# Altium schematic symbol library ld_pulser.SCHLIB: 75 symbols (part 1 of 2)
Pins are listed as number, name and electrical type; pins without a type are passive.

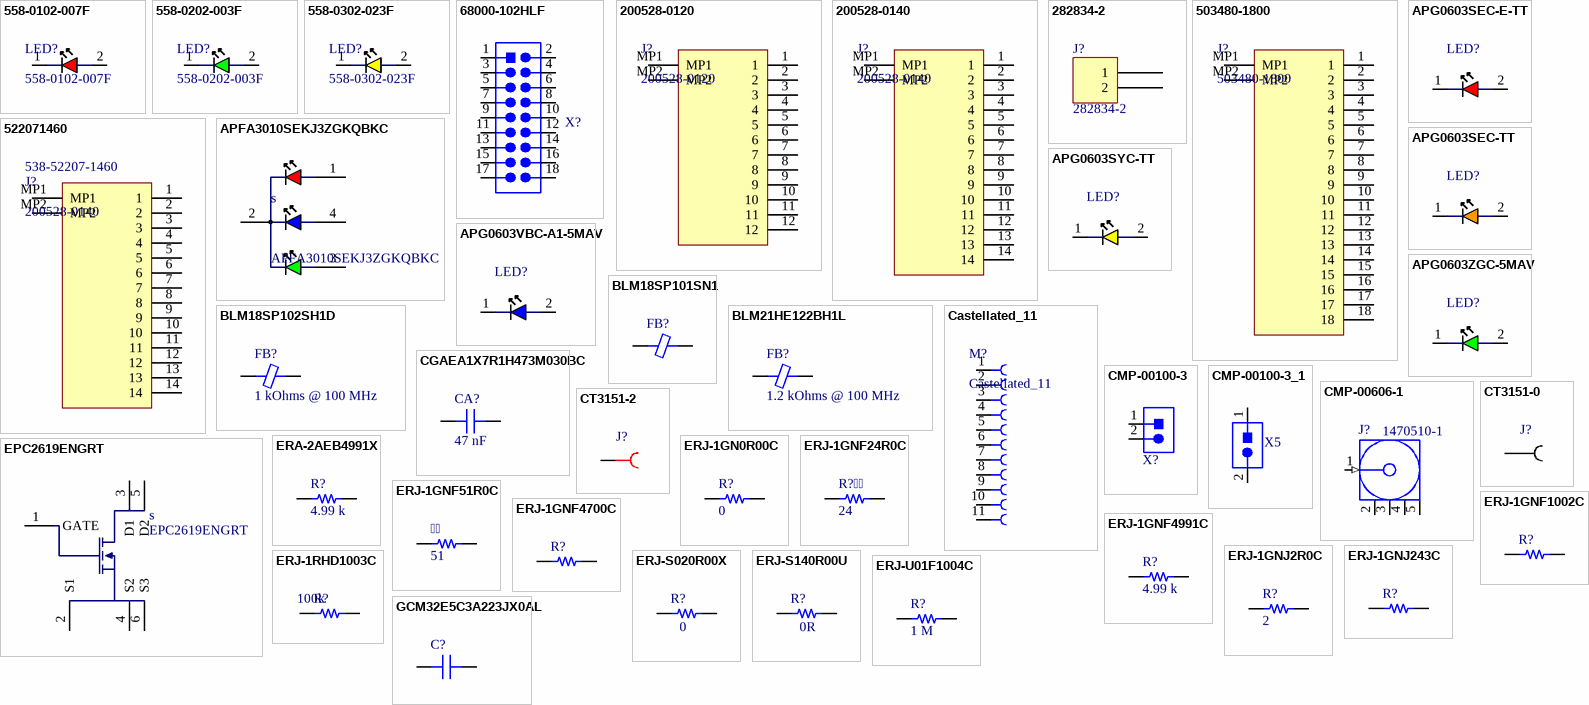
[diagram p0: symbols 558-0102-007F to GCM32E5C3A223JX0AL]

## 558-0102-007F
designator LED?
LED, Red, 5V, SNAPIN Diffused, T-1, 3mm, leaded; Manufacturer: Dialight; Shape: Round; Forward Current: 15mA; Luminous Intensity-Nom: 29mcd; Channels: 1; Optoelectronic Device Type: SINGLE COLOR LED; Viewing Angle: 60°; Overall Height: 3.5306mm; Supplier 1: Farnell; Manufacturer Part Number: 558-0102-007F; RoHS: Yes; Category: LEDs; Stock 1: 267; Pricing 1: 1=2.01, 10=1.74, 25=1.62, 50=1.52, 100=1.4, 250=1.39 (CHF); Mounting Technology: Radial; Pins: 2; Color: Red; Color@wavelength: Red; Terminal Finish: Copper; Min Operating Temperature: -40°C; Max Operating Temperature: 85°C; JESD-609 Code: e4; Lens Style: Diffused; Forward Voltage: 5V; Packaging: Bulk; T-code: T-1; Size: 3mm; Terminal Pitch: 2.54mm; Reach SVHC Compliant: Yes; RoHS Compliant: Yes; ComponentLink1URL: https://datasheet.ciiva.com:443/pdfs/VipMasterIC/IC/DIAC/DIAC-S-A0005429967/DIAC-S-A0005429967-1.pdf?src-supplier=IHS+Markit; ComponentLink1Description: https://datasheet.ciiva.com:443/pdfs/VipMasterIC/IC/DIAC/DIAC-S-A0005429967/DIAC-S-A0005429967-1.pdf?src-supplier=IHS+Markit; ComponentLink2URL: https://datasheet.ciiva.com/8063/558-xx02-00x-8063590.pdf?src-supplier=Element14; ComponentLink2Description: https://datasheet.ciiva.com/8063/558-xx02-00x-8063590.pdf?src-supplier=Element14; ComponentLink3URL: https://datasheet.ciiva.com/7658/1760385-7658427.pdf?src-supplier=Element14; ComponentLink3Description: https://datasheet.ciiva.com/7658/1760385-7658427.pdf?src-supplier=Element14; ComponentLink4URL: https://datasheet.ciiva.com/2147/mdel558cx001-2147129.pdf?src-supplier=Digikey; ComponentLink4Description: https://datasheet.ciiva.com/2147/mdel558cx001-2147129.pdf?src-supplier=Digikey; ComponentLink5URL: https://datasheet.ciiva.com/14601/70081795-14601719.pdf?src-supplier=Allied+Electronics; ComponentLink5Description: https://datasheet.ciiva.com/14601/70081795-14601719.pdf?src-supplier=Allied+Electronics; ComponentLink6URL: https://datasheet.ciiva.com/30154/mdel558cx001-30154365.pdf?src-supplier=Onlinecomponents.com; ComponentLink6Description: https://datasheet.ciiva.com/30154/mdel558cx001-30154365.pdf?src-supplier=Onlinecomponents.com; Supplier Part Number 1: 1126103
footprint 68000-102HLF
pins: 1 K, 2 A

## 558-0202-003F
designator LED?
LED, Green, 5V, SNAPIN Diffused, T-1, 3mm, leaded; Manufacturer: Dialight; Shape: Round; Forward Current: 15mA; Forward Voltage: 7.5V; Luminous Intensity-Nom: 19mcd; Channels: 1; Optoelectronic Device Type: SINGLE COLOR LED; Viewing Angle: 60°; Overall Height: 15mm; Supplier 1: Mouser; Manufacturer Part Number: 558-0202-003F; RoHS: Yes; Category: LEDs; Stock 1: 875; Pricing 1: 1=2.92, 10=2.05, 50=2.05, 100=1.56, 1000=1.15, 10000=1.12 (USD); Mounting Technology: Radial; Pins: 2; Color: Green; Color@wavelength: Green; Terminal Finish: Copper; Min Operating Temperature: -40°C; Max Operating Temperature: 85°C; JESD-609 Code: e4; Lens Style: Diffused; Packaging: Bulk; T-code: T-1; Size: 3mm; Terminal Pitch: 2.54mm; Reach SVHC Compliant: Yes; RoHS Compliant: Yes; ComponentLink1URL: https://datasheet.ciiva.com:443/pdfs/VipMasterIC/IC/DIAC/DIAC-S-A0005429967/DIAC-S-A0005429967-1.pdf?src-supplier=IHS+Markit; ComponentLink1Description: https://datasheet.ciiva.com:443/pdfs/VipMasterIC/IC/DIAC/DIAC-S-A0005429967/DIAC-S-A0005429967-1.pdf?src-supplier=IHS+Markit; ComponentLink2URL: https://datasheet.ciiva.com/12405/mdel558cx001-208698-12405923.pdf?src-supplier=Mouser; ComponentLink2Description: https://datasheet.ciiva.com/12405/mdel558cx001-208698-12405923.pdf?src-supplier=Mouser; ComponentLink3URL: https://datasheet.ciiva.com/30247/mdel558cx001-30247286.pdf?src-supplier=Onlinecomponents.com; ComponentLink3Description: https://datasheet.ciiva.com/30247/mdel558cx001-30247286.pdf?src-supplier=Onlinecomponents.com; ComponentLink4URL: https://datasheet.ciiva.com/6336/mdel558cx001-6336639.pdf?src-supplier=Digikey; ComponentLink4Description: https://datasheet.ciiva.com/6336/mdel558cx001-6336639.pdf?src-supplier=Digikey; Supplier Part Number 1: 645-558-0202-003F
footprint 68000-102HLF
pins: 1 K, 2 A

## 558-0302-023F
designator LED?
LED,  Yellow, 5V, SNAPIN Diffused, T-1, 3mm, leaded; Manufacturer: Dialight; Optoelectronic Device Type: SINGLE COLOR LED; Supplier 1: Mouser; Manufacturer Part Number: 558-0302-023F; RoHS: Yes; Category: Optoelectronics; Stock 1: 781; Pricing 1: 1=2.46, 10=1.64, 50=1.49, 100=1.26, 1000=0.982, 10000=0.907 (USD); Reach SVHC Compliant: Yes; RoHS Compliant: Yes; ComponentLink1URL: https://datasheet.ciiva.com:443/pdfs/VipMasterIC/IC/DIAC/DIAC-S-A0005429967/DIAC-S-A0005429967-1.pdf?src-supplier=IHS+Markit; ComponentLink1Description: https://datasheet.ciiva.com:443/pdfs/VipMasterIC/IC/DIAC/DIAC-S-A0005429967/DIAC-S-A0005429967-1.pdf?src-supplier=IHS+Markit; ComponentLink2URL: http://www.mouser.com/ds/2/109/MDEL558CX001-221124.pdf?src-supplier=Mouser; ComponentLink2Description: http://www.mouser.com/ds/2/109/MDEL558CX001-221124.pdf?src-supplier=Mouser; ComponentLink3URL: https://media.digikey.com/pdf/Data%20Sheets/Dialight%20PDFs/558_SnapInLED_DS.pdf?src-supplier=Digikey; ComponentLink3Description: https://media.digikey.com/pdf/Data%20Sheets/Dialight%20PDFs/558_SnapInLED_DS.pdf?src-supplier=Digikey; ComponentLink4URL: http://uk.rs-online.com/webdocs/1453/0900766b81453b5d.pdf?src-supplier=Rs; ComponentLink4Description: http://uk.rs-online.com/webdocs/1453/0900766b81453b5d.pdf?src-supplier=Rs; ComponentLink5URL: https://www.alliedelec.com/m/d/b7a36c8e4f1c794c265826292e38dc6b.pdf?src-supplier=Allied+Electronics; ComponentLink5Description: https://www.alliedelec.com/m/d/b7a36c8e4f1c794c265826292e38dc6b.pdf?src-supplier=Allied+Electronics; Supplier Part Number 1: 645-558-0302-023F
footprint 68000-102HLF
pins: 1 K, 2 A

## 68000-102HLF
designator X?  (value not drawn)
Header 9*2 Positions, Unshrouded Connector 0.100" (2.54mm) Through Hole Gold or Gold, GXT™; Manufacturer: Amphenol FCI; Number of Positions: 2; Connector Type: Male Pin; Current Rating: 3A; Gender: Male; Insulation Resistance: 5GR; Mating Post Length: 5.84mm; Max Voltage Rating (AC): 1.5kV; Packaging: Bulk; Supplier: Digikey; Supplier Part Number: 609-3500-ND; ComponentLink1Description: 68000-274228-5149165.pdf; ComponentLink1URL: https://datasheet.ciiva.com/5149/68000-274228-5149165.pdf; Pitch: 2.54mm; Manufacturer Part Number: 68000-102HLF; Number of Rows: 1; Termination: Solder; Contact Mating Length: 0.23inch; Case/Package: 100; Colour: Black; ComponentLink2Description: 68000-722084.pdf; ComponentLink2URL: https://datasheet.ciiva.com/722/68000-722084.pdf; ComponentLink3Description: 68000-10149324.pdf; ComponentLink3URL: https://datasheet.ciiva.com/10149/68000-10149324.pdf; ComponentLink4Description: 68000-16726309.pdf; ComponentLink4URL: https://datasheet.ciiva.com/16726/68000-16726309.pdf; Contact Gender: Male; Contact Material: Bronze; Contact Plating: Nickel,Gold,GXT; Depth: 2.41mm; Flammability Rating: UL94 V-0; Housing Colour: Black; Housing Material: Thermoplastic; Lead Free: Lead Free; Length: 5.08mm; Max Operating Temperature: 125°C; Min Operating Temperature: -65°C; Number of Contacts: 2; Orientation: Straight; Package Quantity: 100; Radiation Hardening: No; Termination Post Length: 2.41mm; Voltage Rating: 1.5kV; Voltage Rating (DC): 1.5kV
footprint TSW-109-07-G-D (Conn FPC 14 POS 1 mm)
pins: 1, 2, 3 2, 4 3, 5 3, 6 4, 7 4, 8 5, 9 5, 10 6, 11 6, 12 7, 13 7, 14 8, 15 8, 16 9, 17 9, 18 10

## 200528-0120
designator J?
Connector; Manufacturer_Name: Molex; Height: 2.1mm; Manufacturer_Part_Number: 200528-0120; Mouser Part Number: 538-200528-0120; Mouser Price/Stock: https://www.mouser.co.uk/ProductDetail/Molex/200528-0120?qs=0lSvoLzn4L9%252BN7FTz%2FgRpQ%3D%3D
footprint 2005280120
pins: 1, 2, 3, 4, 5, 6, 7, 8, 9, 10, 11, 12, MP1, MP2

## 200528-0140
designator J?
Conn FPC 14 POS 1 mm; Manufacturer: Molex; Supplier 1: Mouser; Manufacturer Part Number: 200528-0140; RoHS: No; Category: FFC / FPC; Stock 1: 12005; Pricing 1: 1=2.14, 10=1.82, 50=1.82, 100=1.5, 1000=1.2, 10000=1.02 (USD); Supplier Part Number 1: 538-200528-0140
footprint 200528-0140 (Conn FPC 14 POS 1 mm)
pins: 1, 2, 3, 4, 5, 6, 7, 8, 9, 10, 11, 12, 13, 14, MP1, MP2

## 282834-2
designator J?
TERM BLK 2P SIDE ENT 2.54MM PCB; Manufacturer: TE Connectivity AMP Connectors; Current: 10A; Mating Orientation: Horizontal with Board; Number of Levels: 1; Pitch: 0.100" (2.54mm); Positions Per Level: 2; Voltage: 150V; Wire Gauge: 16-30 AWG; Wire Termination: Screw - Rising Cage Clamp; Part Number: 282834-2; Color: Green; ComponentLink1Description: Datasheet; ComponentLink1URL: https://www.te.com/commerce/DocumentDelivery/DDEController?Action=srchrtrv&DocNm=282834&DocType=Customer+Drawing&DocLang=English; ComponentLink2Description: DigiKey Link; ComponentLink2URL: http://digikey.com/product-detail/en/te-connectivity-amp-connectors/282834-2/A98333-ND/1150135; LastUpdated: 15/01/2020 04:15:38; Lifecycle Status: Active; Minimum Order: 1; Mounting Type: Through Hole; Packaging: Bulk; Part Status: Active; Price: 0.88; Series: Buchanan; Supplier 1: DigiKey; Supplier Part Number 1: A98333-ND
footprint TE 282834-2
pins: 1, 2

## 503480-1800
designator J?
Conn FPC  18 POS 0.5mm; Manufacturer: Molex; Manufacturer Part Number: 5034801800; Supplier 1: Mouser; RoHS: Yes; Category: FFC / FPC; Stock 1: 17529; Pricing 1: 1=1.48, 10=1.23, 50=1.23, 100=1.06, 1000=0.885, 10000=0.766 (USD); ComponentLink1URL: https://datasheet.ciiva.com/671/5034800400-sd-671136.pdf?src-supplier=Digi-Key; ComponentLink1Description: https://datasheet.ciiva.com/671/5034800400-sd-671136.pdf?src-supplier=Digi-Key; ComponentLink2URL: https://datasheet.ciiva.com/10366/5034801800-ffc-fpc-connectors-10366583.pdf?src-supplier=Avnet; ComponentLink2Description: https://datasheet.ciiva.com/10366/5034801800-ffc-fpc-connectors-10366583.pdf?src-supplier=Avnet; ComponentLink3URL: https://datasheet.ciiva.com/5137/5034801800-ffc-fpc-connectors-179548-5137672.pdf?src-supplier=Mouser; ComponentLink3Description: https://datasheet.ciiva.com/5137/5034801800-ffc-fpc-connectors-179548-5137672.pdf?src-supplier=Mouser; Supplier Part Number 1: 538-503480-1800
footprint 5034801800
pins: 1, 2, 3, 4, 5, 6, 7, 8, 9, 10, 11, 12, 13, 14, 15, 16, 17, 18, MP1, MP2

## 522071460
designator J?, comment 200528-0140  Supplier Part Number 1: 538-52207-1460
FFC / FPC Board Connector, 1 mm, 14 Contacts, Receptacle, Easy-On 52207 Series, Surface Mount; Manufacturer: Molex; Manufacturer Part Number: 52207-1460; Manufacturer Lifecycle Status: ACTIVE; Contact Resistance: 20mΩ; Current Rating: 1A; Dielectric Material: Polyamide; Insulation Resistance: 100MΩ; Number of Circuits: 14; Pitch: 1mm; Plating: Tin; Plating Thickness: 101.6nm; Stackable: No; Voltage Rating: 125V; Supplier 1: Mouser; RoHS: Compliant; Category: FFC / FPC; Stock 1: 4427; Pricing 1: 1=1.59, 10=1.36, 50=1.21, 100=1.16, 1000=0.977, 10000=0.931 (USD); China RoHS: Compliant; Contact Gender: Female; Contact Material: Bronze; Contact Plating: Gold; Country of Origin: MY; Depth: 7.5mm; ELV: Compliant; Flammability Rating: UL94 V-0; Gender: Receptacle; Length: 21.5mm; Lifecycle Status: Production; Max Operating Temperature: 85°C; Min Operating Temperature: -30°C; Mounting Technology: Surface Mount; Number of Contacts: 14; Pins: 14; Number of Positions: 14; Number of Rows: 1; Orientation: Right Angle; Packaging: Tape and Reel; REACH SVHC: Yes; Schedule B: 8536694040, 8536694040|8536694040|8536694040|8536694040|8536694040; Terminal Pitch: 1mm; Termination: SMD/SMT; ComponentLink1URL: https://datasheet.octopart.com:443/52207-1460-Molex-datasheet-142104640.pdf?src-supplier=IHS; ComponentLink1Description: https://datasheet.octopart.com:443/52207-1460-Molex-datasheet-142104640.pdf?src-supplier=IHS; ComponentLink2URL: https://datasheet.octopart.com:443/52207-1460-Molex-datasheet-13776660.pdf?src-supplier=Sager+Electronics; ComponentLink2Description: https://datasheet.octopart.com:443/52207-1460-Molex-datasheet-13776660.pdf?src-supplier=Sager+Electronics; ComponentLink3URL: https://sigma.octopart.com:443/15648958/technical_drawing/Molex-52207-1460.pdf?src-supplier=Molex; ComponentLink3Description: https://sigma.octopart.com:443/15648958/technical_drawing/Molex-52207-1460.pdf?src-supplier=Molex; ComponentLink4URL: https://datasheet.octopart.com:443/522071460-Molex-datasheet-8339709.pdf?src-supplier=Farnell; ComponentLink4Description: https://datasheet.octopart.com:443/522071460-Molex-datasheet-8339709.pdf?src-supplier=Farnell; ComponentLink5URL: https://datasheet.octopart.com:443/52207-1460-Molex-datasheet-101583306.pdf?src-supplier=Farnell; ComponentLink5Description: https://datasheet.octopart.com:443/52207-1460-Molex-datasheet-101583306.pdf?src-supplier=Farnell; ComponentLink6URL: https://datasheet.octopart.com:443/52207-1460-Molex-datasheet-11535635.pdf?src-supplier=element14+APAC; ComponentLink6Description: https://datasheet.octopart.com:443/52207-1460-Molex-datasheet-11535635.pdf?src-supplier=element14+APAC; ComponentLink7URL: https://datasheet.octopart.com:443/52207-1460-Molex-datasheet-168216957.pdf?src-supplier=TME; ComponentLink7Description: https://datasheet.octopart.com:443/52207-1460-Molex-datasheet-168216957.pdf?src-supplier=TME; ComponentLink8URL: https://datasheet.octopart.com:443/52207-1460-Molex-datasheet-140186224.pdf?src-supplier=RS+(Formerly+Allied+Electronics); ComponentLink8Description: https://datasheet.octopart.com:443/52207-1460-Molex-datasheet-140186224.pdf?src-supplier=RS+(Formerly+Allied+Electronics); ComponentLink9URL: https://datasheet.octopart.com:443/52207-1460-Molex-datasheet-120153299.pdf?src-supplier=RS+(Formerly+Allied+Electronics); ComponentLink9Description: https://datasheet.octopart.com:443/52207-1460-Molex-datasheet-120153299.pdf?src-supplier=RS+(Formerly+Allied+Electronics); ComponentLink10URL: https://datasheet.octopart.com:443/52207-1460-Molex-datasheet-32997471.pdf?src-supplier=RS+(Formerly+Allied+Electronics); ComponentLink10Description: https://datasheet.octopart.com:443/52207-1460-Molex-datasheet-32997471.pdf?src-supplier=RS+(Formerly+Allied+Electronics); ComponentLink11URL: http://sigma.octopart.com:80/15648969/rohs_certificate/Molex-52207-1460.pdf?src-supplier=Compliance+Statements; ComponentLink11Description: http://sigma.octopart.com:80/15648969/rohs_certificate/Molex-52207-1460.pdf?src-supplier=Compliance+Statements; ComponentLink12URL: http://sigma.octopart.com:80/conflict_mineral_statement/Molex-company-72.pdf?src-supplier=Compliance+Statements; ComponentLink12Description: http://sigma.octopart.com:80/conflict_mineral_statement/Molex-company-72.pdf?src-supplier=Compliance+Statements; ComponentLink13URL: http://sigma.octopart.com:80/reach_statement/Molex-company-74.pdf?src-supplier=Compliance+Statements; ComponentLink13Description: http://sigma.octopart.com:80/reach_statement/Molex-company-74.pdf?src-supplier=Compliance+Statements; ComponentLink14URL: http://sigma.octopart.com:80/rohs_statement/Molex-company-73.pdf?src-supplier=Compliance+Statements; ComponentLink14Description: http://sigma.octopart.com:80/rohs_statement/Molex-company-73.pdf?src-supplier=Compliance+Statements
footprint 200528-0140 (Conn FPC 14 POS 1 mm)
pins: 1, 2, 3, 4, 5, 6, 7, 8, 9, 10, 11, 12, 13, 14, MP1, MP2

## APFA3010SEKJ3ZGKQBKC
designator s
Diode Triple Color LED, Hyper Red/green/blue, Water Clear, 2mm; Manufacturer_Name: Kingbright; Datasheet Link: http://www.kingbrightusa.com/images/catalog/SPEC/APFA3010SEKJ3ZGKQBKC.pdf; Manufacturer_Part_Number: APFA3010SEKJ3ZGKQBKC; Mouser Part Number: 604-APFA3010SEKJ3ZGK; Mouser Price/Stock: https://www.mouser.co.uk/ProductDetail/Kingbright/APFA3010SEKJ3ZGKQBKC?qs=ZqXcJfGlKshYxe01AZPUSQ%3D%3D; Arrow Part Number: APFA3010SEKJ3ZGKQBKC; Arrow Price/Stock: https://www.arrow.com/en/products/apfa3010sekj3zgkqbkc/kingbright?region=nac; Supplier: Mouser; Supplier Part Number: 604-APFA3010SEKJ3ZGK; Manufacturer: Kingbright; Manufacturer Part Number: APFA3010SEKJ3ZGKQBKC; RoHS: Yes; Category: LEDs; Stock: 3312; Pricing: 1=0.73, 10=0.55, 50=0.55, 100=0.361, 1000=0.285, 10000=0.236 (USD); Optoelectronic Device Type: TRIPLE COLOR LED; Reach SVHC Compliant: Yes; RoHS Compliant: No; ComponentLink1URL: https://datasheet.ciiva.com:443/pdfs/VipMasterIC/IC/KBEC/KBEC-S-A0009182661/KBEC-S-A0009182661-1.pdf?src-supplier=IHS+Markit; ComponentLink1Description: https://datasheet.ciiva.com:443/pdfs/VipMasterIC/IC/KBEC/KBEC-S-A0009182661/KBEC-S-A0009182661-1.pdf?src-supplier=IHS+Markit; ComponentLink2URL: http://www.mouser.com/ds/2/216/APFA3010SEKJ3ZGKQBKC-786341.pdf?src-supplier=Mouser; ComponentLink2Description: http://www.mouser.com/ds/2/216/APFA3010SEKJ3ZGKQBKC-786341.pdf?src-supplier=Mouser; ComponentLink3URL: http://www.alliedelec.com/m/d/a1f0b1a26d6f1f6090ad1bcb5a5ee2f9.pdf?src-supplier=Allied+Electronics; ComponentLink3Description: http://www.alliedelec.com/m/d/a1f0b1a26d6f1f6090ad1bcb5a5ee2f9.pdf?src-supplier=Allied+Electronics; ComponentLink4URL: http://www.kingbrightusa.com/images/catalog/SPEC/APFA3010SEKJ3ZGKQBKC.pdf?src-supplier=Digi-Key; ComponentLink4Description: http://www.kingbrightusa.com/images/catalog/SPEC/APFA3010SEKJ3ZGKQBKC.pdf?src-supplier=Digi-Key; Supplier 1: Mouser; Supplier Part Number 1: 604-APFA3010SEKJ3ZGK
footprint KPFA-3010RGBC-11
pins: 1 A_RED, 2 COMMON_K, 3 A_GREEN, 4 A_BLUE

## APG0603SEC-E-TT
designator LED?  (value not drawn)
Diode LED RED 10 mA @ 1.93 V lv=40; Manufacturer: Kingbright; Optoelectronic Device Type: SINGLE COLOR LED; Supplier 1: Mouser; Manufacturer Part Number: APG0603SEC-E-TT; RoHS: Yes; Category: LEDs; Stock 1: 6830; Pricing 1: 1=0.49, 10=0.299, 50=0.299, 100=0.172, 1000=0.123, 10000=0.106 (USD); Reach SVHC Compliant: Yes; RoHS Compliant: Yes; ComponentLink1URL: https://datasheet.ciiva.com:443/pdfs/VipMasterIC/IC/KBEC/KBEC-S-A0008424280/KBEC-S-A0008424280-1.pdf?src-supplier=IHS+Markit; ComponentLink1Description: https://datasheet.ciiva.com:443/pdfs/VipMasterIC/IC/KBEC/KBEC-S-A0008424280/KBEC-S-A0008424280-1.pdf?src-supplier=IHS+Markit; ComponentLink2URL: http://www.kingbrightusa.com/images/catalog/SPEC/APG0603SEC-E-TT.pdf?src-supplier=Digi-Key; ComponentLink2Description: http://www.kingbrightusa.com/images/catalog/SPEC/APG0603SEC-E-TT.pdf?src-supplier=Digi-Key; Supplier Part Number 1: 604-APG0603SECETT
footprint APG0603SECETT
pins: 1 K, 2 A

## APG0603SEC-TT
designator LED?  (value not drawn)
Diode LED ORANGE 10 mA @ 2.01 V lv=50; Manufacturer: Kingbright; Optoelectronic Device Type: SINGLE COLOR LED; Supplier 1: Mouser; Manufacturer Part Number: APG0603SEC-TT; RoHS: Yes; Category: LEDs; Stock 1: 34137; Pricing 1: 1=0.47, 10=0.283, 50=0.283, 100=0.162, 1000=0.117, 10000=0.102 (USD); Reach SVHC Compliant: Yes; RoHS Compliant: Yes; ComponentLink1URL: https://datasheet.ciiva.com:443/pdfs/VipMasterIC/IC/KBEC/KBEC-S-A0008424245/KBEC-S-A0008424245-1.pdf?src-supplier=IHS+Markit; ComponentLink1Description: https://datasheet.ciiva.com:443/pdfs/VipMasterIC/IC/KBEC/KBEC-S-A0008424245/KBEC-S-A0008424245-1.pdf?src-supplier=IHS+Markit; ComponentLink2URL: http://www.kingbrightusa.com/images/catalog/SPEC/APG0603SEC-TT.pdf?src-supplier=Digi-Key; ComponentLink2Description: http://www.kingbrightusa.com/images/catalog/SPEC/APG0603SEC-TT.pdf?src-supplier=Digi-Key; Supplier Part Number 1: 604-APG0603SECTT
footprint APG0603SECETT
pins: 1 K, 2 A

## APG0603SYC-TT
designator LED?  (value not drawn)
Diode LED YELLOW 10 mA @ 2.01 V lv=30; Manufacturer: Kingbright; Optoelectronic Device Type: SINGLE COLOR LED; Supplier 1: Mouser; Manufacturer Part Number: APG0603SYC-TT; RoHS: Yes; Category: LEDs; Stock 1: 13896; Pricing 1: 1=0.48, 10=0.296, 50=0.296, 100=0.169, 1000=0.123, 10000=0.106 (USD); Reach SVHC Compliant: Yes; RoHS Compliant: Yes; ComponentLink1URL: https://datasheet.ciiva.com:443/pdfs/VipMasterIC/IC/KBEC/KBEC-S-A0008424303/KBEC-S-A0008424303-1.pdf?src-supplier=IHS+Markit; ComponentLink1Description: https://datasheet.ciiva.com:443/pdfs/VipMasterIC/IC/KBEC/KBEC-S-A0008424303/KBEC-S-A0008424303-1.pdf?src-supplier=IHS+Markit; ComponentLink2URL: http://www.kingbrightusa.com/images/catalog/SPEC/APG0603SYC-TT.pdf?src-supplier=Digi-Key; ComponentLink2Description: http://www.kingbrightusa.com/images/catalog/SPEC/APG0603SYC-TT.pdf?src-supplier=Digi-Key; Supplier Part Number 1: 604-APG0603SYCTT
footprint APG0603SECETT
pins: 1 K, 2 A

## APG0603VBC-A1-5MAV
designator LED?  (value not drawn)
Diode LED BLUE 10 mA @ 2.9 V lv=60; Manufacturer: Kingbright; Supplier 1: Mouser; Manufacturer Part Number: APG0603VBC-A1-5MAV; RoHS: Yes; Category: LEDs; Stock 1: 23353; Pricing 1: 1=0.64, 10=0.396, 50=0.396, 100=0.228, 1000=0.171, 10000=0.146 (USD); Supplier Part Number 1: 604-APG0603VBCA15MAV
footprint APG0603SECETT
pins: 1 K, 2 A

## APG0603ZGC-5MAV
designator LED?  (value not drawn)
Diode LED GREEN 5 mA @ 2.85 V lv=80(?); Manufacturer: Kingbright; Supplier 1: Mouser; Manufacturer Part Number: APG0603ZGC-5MAV; RoHS: Yes; Category: LEDs; Stock 1: 11940; Pricing 1: 1=0.54, 10=0.335, 50=0.335, 100=0.193, 1000=0.139, 10000=0.118 (USD); Supplier Part Number 1: 604-APG0603ZGC-5MAV
footprint APG0603SECETT
pins: 1 K, 2 A

## BLM18SP101SN1
designator FB?
FERRITE BEAD 100 OHM 0603 1LN; Manufacturer: Murata; Manufacturer Part Number: BLM18SP101SN1D; Supplier 1: Mouser; RoHS: Yes; Category: Ferrite Beads and Chips; Stock 1: 17354; Pricing 1: 1=0.21, 10=0.108, 50=0.108, 100=0.074, 1000=0.055, 10000=0.048 (USD); Supplier Part Number 1: 81-BLM18SP101SN1D
footprint FER 0603_1608
pins: 1, 2

## BLM18SP102SH1D
designator FB?, comment 1 kOhms @ 100 MHz
FERRITE BEAD 1K OHM 0603 1LN; Part Number: BLM18SP102SH1D; Manufacturer: Murata Electronics; Current Rating (Max): 1.2A; DC Resistance (DCR) (Max): 185mOhm; Filter Type: Power Line; Number of Lines: 1; ComponentLink1Description: Datasheet; ComponentLink1URL: https://www.murata.com/products/productdata/8796737273886/QNFA9101.pdf; ComponentLink2Description: DigiKey Link; ComponentLink2URL: https://www.digikey.com/en/products/detail/murata-electronics/BLM18SP102SH1D/12759403; Device Package: 0603 (1608 Metric); Height (Max): 0.037" (0.95mm); Impedance @ Frequency: 1 kOhms @ 100 MHz; LastUpdated: 13/07/2023 19:55:34; Lifecycle Status: Active; Minimum Order: 1; Mounting Type: Surface Mount; Operating Temperature: -55°C ~ 125°C; Package / Case: 0603 (1608 Metric); Packaging: TapeAndReel; PartId: 2122; Part Status: Active; Price: 0.05; Ratings: AEC-Q200; Series: BLM; Size / Dimension: 0.063" L x 0.031" W (1.60mm x 0.80mm); Value: 1 kOhms @ 100 MHz; Supplier 1: Digi-Key; Supplier Part Number 1: 490-BLM18SP102SH1DCT-ND; Supplier 2: Mouser; Supplier Part Number 2: 81-BLM18SP102SH1D
footprint FER 0603_1608
pins: 1, 2

## BLM21HE122BH1L
designator FB?, comment 1.2 kOhms @ 100 MHz
FERRITE BEAD 1.2K OHM 0805 1LN; Part Number: BLM21HE122BH1L; Manufacturer: Murata Electronics; Current Rating (Max): 1.6A; DC Resistance (DCR) (Max): 110mOhm; Filter Type: Signal Line; Number of Lines: 1; ComponentLink2Description: DigiKey Link; ComponentLink2URL: https://www.digikey.com/en/products/detail/murata-electronics/BLM21HE122BH1L/17184950; Device Package: 0805 (2012 Metric); Features: Automotive; Height (Max): 0.057" (1.45mm); Impedance @ Frequency: 1.2 kOhms @ 100 MHz; LastUpdated: 13/07/2023 19:56:00; Lifecycle Status: Active; Minimum Order: 1; Mounting Type: Surface Mount; Operating Temperature: -55°C ~ 125°C; Package / Case: 0805 (2012 Metric); Packaging: TapeAndReel; PartId: 3257; Part Status: Active; Price: 0.10; Ratings: AEC-Q200; Series: BLM21H; Size / Dimension: 0.079" L x 0.049" W (2.00mm x 1.25mm); Value: 1.2 kOhms @ 100 MHz; Supplier 1: Digi-Key; Supplier Part Number 1: 490-BLM21HE122BH1LCT-ND; Supplier 2: Mouser; Supplier Part Number 2: 81-BLM21HE122BH1L
footprint FER 0805_2012
pins: 1, 2

## Castellated_11
designator M?  (no BOM)
Castellated holes, 11 pin, 0.6 mm hole diameter, 1.27 mm pitch
footprint Castellated_ (Castellated holes, 11 pin, 0.6 mm hole diameter, 1.27 mm pitch)
pins: 1, 2, 3, 4, 5, 6, 7, 8, 9, 10, 11

## CGAEA1X7R1H473M030BC
designator CA?, comment 47 nF
CAP CER 47 nF, 50V, 20%  X7R  0204; Manufacturer_Name: TDK; Manufacturer_Part_Number: CGAEA1X7R1H473M030BC; Datasheet Link: https://product.tdk.com/system/files/dam/doc/product/capacitor/ceramic/mlcc/catalog/mlcc_automotive_lwreverse_cga_en.pdf; Height: 0.35mm; Mouser Part Number: 810-CGAEA1X7R1H473M0; Mouser Price/Stock: https://www.mouser.co.uk/ProductDetail/TDK/CGAEA1X7R1H473M030BC?qs=w%2Fv1CP2dgqqHjWKa5Bydbw%3D%3D; Arrow Part Number: CGAEA1X7R1H473M030BC; Arrow Price/Stock: https://www.arrow.com/en/products/cgaea1x7r1h473m030bc/tdk; Supplier: Mouser; Supplier Part Number: 810-CGAEA1X7R1H473M0; Manufacturer: TDK; Manufacturer Part Number: CGAEA1X7R1H473M030BC; RoHS: No; Category: Ceramic Capacitors; Stock: 43378; Pricing: 1=0.28, 10=0.142, 50=0.142, 100=0.085, 1000=0.075, 10000=0.059 (USD); ComponentLink1URL: https://datasheet.ciiva.com:443/pdfs/VipMasterIC/IC/TDKC/TDKC-S-A0005729183/TDKC-S-A0005729183-1.pdf?src-supplier=IHS+Markit; ComponentLink1Description: https://datasheet.ciiva.com:443/pdfs/VipMasterIC/IC/TDKC/TDKC-S-A0005729183/TDKC-S-A0005729183-1.pdf?src-supplier=IHS+Markit; ComponentLink2URL: https://product.tdk.com/info/en/catalog/datasheets/mlcc_automotive_lwreverse_cga_en.pdf?src-supplier=Digi-Key; ComponentLink2Description: https://product.tdk.com/info/en/catalog/datasheets/mlcc_automotive_lwreverse_cga_en.pdf?src-supplier=Digi-Key; Supplier 1: Mouser; Supplier Part Number 1: 810-CGAEA1X7R1H473M0
footprint CAPC0510X35N
pins: 1, 2

## CMP-00100-3
designator X?, comment 68000-102HLF  (value not drawn)
Header 2 positions, Unshrouded Connector 0.100" (2.54mm) Through Hole Gold or Gold, GXT™; Manufacturer: Amphenol FCI; Number of Positions: 2; Connector Type: Male Pin; Current Rating: 3A; Gender: Male; Insulation Resistance: 5GR; Mating Post Length: 5.84mm; Max Voltage Rating (AC): 1.5kV; Packaging: Bulk; Supplier: Digikey; Supplier Part Number: 609-3500-ND; ComponentLink1Description: 68000-274228-5149165.pdf; ComponentLink1URL: https://datasheet.ciiva.com/5149/68000-274228-5149165.pdf; Pitch: 2.54mm; Manufacturer Part Number: 68000-102HLF; Number of Rows: 1; Termination: Solder; Contact Mating Length: 0.23inch; Case/Package: 100; Colour: Black; ComponentLink2Description: 68000-722084.pdf; ComponentLink2URL: https://datasheet.ciiva.com/722/68000-722084.pdf; ComponentLink3Description: 68000-10149324.pdf; ComponentLink3URL: https://datasheet.ciiva.com/10149/68000-10149324.pdf; ComponentLink4Description: 68000-16726309.pdf; ComponentLink4URL: https://datasheet.ciiva.com/16726/68000-16726309.pdf; Contact Gender: Male; Contact Material: Bronze; Contact Plating: Nickel,Gold,GXT; Depth: 2.41mm; Flammability Rating: UL94 V-0; Housing Colour: Black; Housing Material: Thermoplastic; Lead Free: Lead Free; Length: 5.08mm; Max Operating Temperature: 125°C; Min Operating Temperature: -65°C; Number of Contacts: 2; Orientation: Straight; Package Quantity: 100; Radiation Hardening: No; Termination Post Length: 2.41mm; Voltage Rating: 1.5kV; Voltage Rating (DC): 1.5kV
footprint 68000-102HLF (Terminal Assembly, 1x2 Pins, Vertical, 2.54mm Pitch, Male)
pins: 1, 2

## CMP-00100-3_1
designator X5, comment 68000-102HLF  (value not drawn)
Header 2 Positions , Unshrouded Connector 0.100" (2.54mm) Through Hole Gold or Gold, GXT™; Manufacturer: Amphenol FCI; Number of Positions: 2; Connector Type: Male Pin; Current Rating: 3A; Gender: Male; Insulation Resistance: 5GR; Mating Post Length: 5.84mm; Max Voltage Rating (AC): 1.5kV; Packaging: Bulk; Supplier: Digikey; Supplier Part Number: 609-3500-ND; ComponentLink1Description: 68000-274228-5149165.pdf; ComponentLink1URL: https://datasheet.ciiva.com/5149/68000-274228-5149165.pdf; Pitch: 2.54mm; Manufacturer Part Number: 68000-102HLF; Number of Rows: 1; Termination: Solder; Contact Mating Length: 0.23inch; Case/Package: 100; Colour: Black; ComponentLink2Description: 68000-722084.pdf; ComponentLink2URL: https://datasheet.ciiva.com/722/68000-722084.pdf; ComponentLink3Description: 68000-10149324.pdf; ComponentLink3URL: https://datasheet.ciiva.com/10149/68000-10149324.pdf; ComponentLink4Description: 68000-16726309.pdf; ComponentLink4URL: https://datasheet.ciiva.com/16726/68000-16726309.pdf; Contact Gender: Male; Contact Material: Bronze; Contact Plating: Nickel,Gold,GXT; Depth: 2.41mm; Flammability Rating: UL94 V-0; Housing Colour: Black; Housing Material: Thermoplastic; Lead Free: Lead Free; Length: 5.08mm; Max Operating Temperature: 125°C; Min Operating Temperature: -65°C; Number of Contacts: 2; Orientation: Straight; Package Quantity: 100; Radiation Hardening: No; Termination Post Length: 2.41mm; Voltage Rating: 1.5kV; Voltage Rating (DC): 1.5kV
footprint 68000-102HLF (Terminal Assembly, 1x2 Pins, Vertical, 2.54mm Pitch, Male)
pins: 1, 2

## CMP-00606-1
designator J?, comment 1470510-1
SMA Connector Jack, Female Socket 50 Ohm Through Hole Solder; Manufacturer: TE Connectivity; Body Material: Brass; Dielectric Material: PTFE; Frequency: 6GHz; Gender: Male; Connector Type: SMA,Jack; Impedance: 50R; PCB Mounting Orientation: Vertical; Mount: Through Hole; Case/Package: SMA; Termination: Solder; Orientation: Straight; Packaging: Bag; Package Quantity: 100; Length: 13.97mm; Radiation Hardening: No; ELV: Compliant; Manufacturer Part Number: 1470510-1; Supplier: Digi-Key; Supplier Part Number: A119269-ND; ComponentLink1Description: 1470510-1?RQPN=1470510-1; ComponentLink1URL: http://www.te.com/catalog/pn/en/1470510-1?RQPN=1470510-1
footprint 5-1814832-1
pins: 1 Signal (in) "Signal Pin", 2 GND (power), 3 GND (power), 4 GND (power), 5 GND (power)

## CT3151-0
designator J?  (value not drawn)
Banana plug connector - Black; Manufacturer: Cal Test Electronics; Supplier 1: Mouser; Manufacturer Part Number: CT3151-0; RoHS: Yes; Category: Connectors; Stock 1: 3249; Pricing 1: 1=2.45, 10=2.45, 50=2.45, 100=2.45, 1000=2.45, 10000=2.45 (USD); Reach SVHC Compliant: Yes; ComponentLink1URL: http://www.caltestelectronics.com/images/attachments/P315100rH_drawing.pdf?src-supplier=Digikey; ComponentLink1Description: http://www.caltestelectronics.com/images/attachments/P315100rH_drawing.pdf?src-supplier=Digikey; Supplier Part Number 1: 510-CT3151-0
footprint CT31510; pin to pad 1>1+2+3+4
pins: 1

## CT3151-2
designator J?  (value not drawn)
Banana plug connector - Red; Manufacturer: Cal Test Electronics; Supplier 1: Mouser; Manufacturer Part Number: CT3151-2; RoHS: Yes; Category: Connectors; Pricing 1: 1=2.45, 10=2.45, 50=2.45, 100=2.45, 1000=2.45, 10000=2.45 (USD); Reach SVHC Compliant: Yes; ComponentLink1URL: http://www.caltestelectronics.com/images/attachments/P315100rH_drawing.pdf?src-supplier=Digikey; ComponentLink1Description: http://www.caltestelectronics.com/images/attachments/P315100rH_drawing.pdf?src-supplier=Digikey; Supplier Part Number 1: 510-CT3151-2
footprint CT31510; pin to pad 1>1+2+3+4
pins: 1

## EPC2619ENGRT
designator s
Transistor eGaN; Manufacturer_Name: EPC; Datasheet Link: https://epc-co.com/epc/Portals/0/epc/documents/datasheets/EPC2619_datasheet.pdf?ver=TMorboM_55DlaHDCA464lg%3d%3d; Height: 0.638mm; Manufacturer_Part_Number: EPC2619ENGRT; Supplier 1: Digi-Key; Supplier Part Number 1: 917-EPC2619ENGRTCT-ND
footprint EPC2619ENGRT
pins: 1 GATE, 2 S1, 3 D1, 4 S2, 5 D2, 6 S3

## ERA-2AEB4991X
designator R?, comment 4.99 k
RES SMD 4.99KOHM 0.1% 1/16W 0402; Part Number: ERA-2AEB4991X; Manufacturer: Panasonic Electronic Components; Power (Watts): 0.063W, 1/16W; Resistance: 4.99 kOhms; Temperature Coefficient: ±25ppm/°C; ComponentLink1Description: Datasheet; ComponentLink1URL: https://industrial.panasonic.com/cdbs/www-data/pdf/RDM0000/AOA0000C307.pdf; ComponentLink2Description: DigiKey Link; ComponentLink2URL: https://www.digikey.com/en/products/detail/panasonic-electronic-components/ERA-2AEB4991X/2026116; Composition: Thin Film; Device Package: 0402 (1005 Metric); Features: Automotive AEC-Q200; Height - Seated (Max): 0.016" (0.40mm); LastUpdated: 13/07/2023 19:22:52; Lifecycle Status: Active; Minimum Order: 1; Number of Terminations: 2; Operating Temperature: -55°C ~ 155°C; Package / Case: 0402 (1005 Metric); Packaging: TapeAndReel; PartId: 6112; Part Status: Active; Price: 0.04; Ratings: AEC-Q200; Series: ERA-2A; Size / Dimension: 0.039" L x 0.020" W (1.00mm x 0.50mm); Supplier Device Package: 0402; Tolerance: ±0.1%; Supplier 1: Digi-Key; Supplier Part Number 1: 10-ERA-2AEB4991XCT-ND; Supplier 2: Mouser; Supplier Part Number 2: 667-ERA-2AEB4991X; Value: 4.99 k
footprint RES 0402_1005
pins: 1, 2

## ERJ-1GN0R00C
designator R?, comment 0
RES SMD 0OHM 0.1% 1/20W 0201; Manufacturer: Panasonic; Manufacturer Part Number: ERJ-1GN0R00C; Power: 50mW; Rated Temperature: 70°C; Package Height: 0.23mm; Package Length: 0.6mm; Package Width: 0.3mm; Reference Standard: AEC-Q200; Supplier: Mouser; Supplier Part Number: 667-ERJ-1GN0R00C; RoHS: Yes; Category: Chip SMD Resistors; Stock: 4285208; Pricing: 1=0.1, 10=0.018, 50=0.018, 100=0.008, 1000=0.006, 10000=0.004 (USD); Mounting Technology: Surface Mount; Pins: 2; Package Shape: Rectangular; Case/Package: 0201; Terminal Finish: Nickel; Min Operating Temperature: -55°C; Max Operating Temperature: 125°C; JESD-609 Code: e3; Resistor Type: FIXED RESISTOR; Construction: Rectangular; Package Style: SMTMeter; Packaging: Tape and Reel; Value: 0; Technology: METAL GLAZE/THICK FILM; Termination: Wraparound; Reach SVHC Compliant: Yes; RoHS Compliant: Yes; ComponentLink1URL: https://datasheet.ciiva.com:443/pdfs/VipMasterIC/IC/PANA/PANA-S-A0009459603/PANA-S-A0009459603-1.pdf?src-supplier=IHS+Markit; ComponentLink1Description: https://datasheet.ciiva.com:443/pdfs/VipMasterIC/IC/PANA/PANA-S-A0009459603/PANA-S-A0009459603-1.pdf?src-supplier=IHS+Markit; Supplier 1: Mouser; Supplier Part Number 1: 667-ERJ-1GN0R00C
footprint RES 0201_0603
pins: 1, 2

## ERJ-1GNF24R0C
designator R?, comment 24
RES SMD 24 OHM 1% 1/20W 0201; Manufacturer: Panasonic; Manufacturer Part Number: ERJ-1GNF24R0C; Power: 50mW; Rated Temperature: 70°C; Temperature Coefficient: 200ppm/°C; Working Voltage: 25V; Package Height: 0.23mm; Package Length: 0.6mm; Package Width: 0.3mm; Reference Standard: AEC-Q200; Supplier 1: Mouser; RoHS: Yes; Category: Chip SMD Resistors; Stock 1: 78378; Pricing 1: 1=0.1, 10=0.023, 50=0.023, 100=0.014, 1000=0.01, 10000=0.007 (USD); Mounting Technology: Surface Mount; Pins: 2; Package Shape: Rectangular; Case/Package: 0201; Terminal Finish: Nickel; Min Operating Temperature: -55°C; Max Operating Temperature: 125°C; Tolerance: 1%; JESD-609 Code: e3; Resistor Type: FIXED RESISTOR; Construction: Rectangular; Package Style: SMTMeter; Packaging: Tape and Reel; Value: 24; Technology: METAL GLAZE/THICK FILM; Termination: Wraparound; Reach SVHC Compliant: Yes; RoHS Compliant: Yes; ComponentLink1URL: https://datasheet.ciiva.com:443/pdfs/VipMasterIC/IC/PANA/PANA-S-A0009889626/PANA-S-A0009889626-1.pdf?src-supplier=IHS+Markit; ComponentLink1Description: https://datasheet.ciiva.com:443/pdfs/VipMasterIC/IC/PANA/PANA-S-A0009889626/PANA-S-A0009889626-1.pdf?src-supplier=IHS+Markit; ComponentLink2URL: https://datasheet.ciiva.com/46440/1678782-46440365.pdf?src-supplier=Element14; ComponentLink2Description: https://datasheet.ciiva.com/46440/1678782-46440365.pdf?src-supplier=Element14; ComponentLink3URL: https://datasheet.ciiva.com/7861/aoa0000ce2-7861836.pdf?src-supplier=Element14; ComponentLink3Description: https://datasheet.ciiva.com/7861/aoa0000ce2-7861836.pdf?src-supplier=Element14; ComponentLink4URL: https://datasheet.ciiva.com/43467/1678782-43467015.pdf?src-supplier=Farnell; ComponentLink4Description: https://datasheet.ciiva.com/43467/1678782-43467015.pdf?src-supplier=Farnell; Supplier Part Number 1: 667-ERJ-1GNF24R0C
footprint RES 0201_0603
pins: 1, 2

## ERJ-1GNF51R0C
designator , comment 51
RES SMD 51 OHM 1% 1/20W 0201; Manufacturer: Panasonic; Manufacturer Part Number: ERJ1GNF51R0C; Power: 50mW; Rated Temperature: 70°C; Temperature Coefficient: 200ppm/°C; Working Voltage: 25V; Package Height: 0.23mm; Package Length: 0.6mm; Package Width: 0.3mm; Reference Standard: AEC-Q200; Supplier: Mouser; Supplier Part Number: 667-ERJ-1GNF51R0C; RoHS: Yes; Category: Chip SMD Resistors; Stock: 39473; Pricing: 1=0.1, 10=0.033, 50=0.033, 100=0.015, 1000=0.011, 10000=0.007 (USD); Mounting Technology: Surface Mount; Pins: 2; Package Shape: Rectangular; Case/Package: 0201; Terminal Finish: Nickel; Min Operating Temperature: -55°C; Max Operating Temperature: 125°C; Tolerance: 1%; JESD-609 Code: e3; Resistor Type: FIXED RESISTOR; Construction: Rectangular; Package Style: SMTMeter; Packaging: Tape and Reel; Value: 51; Technology: METAL GLAZE/THICK FILM; Termination: Wraparound; Reach SVHC Compliant: Yes; RoHS Compliant: Yes; ComponentLink1URL: https://datasheet.ciiva.com:443/pdfs/VipMasterIC/IC/PANA/PANA-S-A0009889626/PANA-S-A0009889626-1.pdf?src-supplier=IHS+Markit; ComponentLink1Description: https://datasheet.ciiva.com:443/pdfs/VipMasterIC/IC/PANA/PANA-S-A0009889626/PANA-S-A0009889626-1.pdf?src-supplier=IHS+Markit; ComponentLink2URL: https://datasheet.ciiva.com/43467/1678782-43467023.pdf?src-supplier=Farnell; ComponentLink2Description: https://datasheet.ciiva.com/43467/1678782-43467023.pdf?src-supplier=Farnell; ComponentLink3URL: https://datasheet.ciiva.com/24130/aoa0000ce2-24130655.pdf?src-supplier=Mouser; ComponentLink3Description: https://datasheet.ciiva.com/24130/aoa0000ce2-24130655.pdf?src-supplier=Mouser; ComponentLink4URL: https://datasheet.ciiva.com/46375/1678782-46375932.pdf?src-supplier=Element14; ComponentLink4Description: https://datasheet.ciiva.com/46375/1678782-46375932.pdf?src-supplier=Element14; ComponentLink5URL: https://datasheet.ciiva.com/7891/aoa0000ce2-7891288.pdf?src-supplier=Element14; ComponentLink5Description: https://datasheet.ciiva.com/7891/aoa0000ce2-7891288.pdf?src-supplier=Element14; Supplier 1: Mouser; Supplier Part Number 1: 667-ERJ-1GNF51R0C
footprint RES 0201_0603
pins: 1, 2

## ERJ-1GNF1002C
designator R?, comment 10k  (value not drawn)
RES SMD 10KOHM 0.1% 63mW 0402; Manufacturer: Panasonic; Manufacturer Part Number: ERA-2AEB103X; Rated Temperature: 85°C; Temperature Coefficient: 25ppm/°C; Working Voltage: 25V; Package Height: 0.35mm; Package Length: 1mm; Package Width: 0.5mm; Reference Standard: AEC-Q200; Supplier 1: Mouser; RoHS: Yes; Category: Chip SMD Resistors; Stock 1: 679779; Pricing 1: 1=0.39, 10=0.153, 50=0.153, 100=0.077, 1000=0.056, 10000=0.051 (USD); Mounting Technology: Surface Mount; Pins: 2; Case/Package: 0402; Terminal Finish: Nickel; Min Operating Temperature: -55°C; Max Operating Temperature: 155°C; Tolerance: 0.1%; JESD-609 Code: e3; Resistor Type: FIXED RESISTOR; Construction: Rectangular; Package Style: SMTMeter; Packaging: Tape and Reel; Power: 63mW; Value: 10k; Technology: THIN FILM; Termination: Wraparound; Reach SVHC Compliant: Yes; RoHS Compliant: Yes; ComponentLink1URL: https://datasheet.ciiva.com:443/pdfs/VipMasterIC/IC/PANA/PANA-S-A0009459258/PANA-S-A0009459258-1.pdf?src-supplier=IHS+Markit; ComponentLink1Description: https://datasheet.ciiva.com:443/pdfs/VipMasterIC/IC/PANA/PANA-S-A0009459258/PANA-S-A0009459258-1.pdf?src-supplier=IHS+Markit; ComponentLink2URL: https://datasheet.ciiva.com/46398/328837-46398998.pdf?src-supplier=Element14; ComponentLink2Description: https://datasheet.ciiva.com/46398/328837-46398998.pdf?src-supplier=Element14; ComponentLink3URL: https://datasheet.ciiva.com/5838/328837-5838011.pdf?src-supplier=Farnell; ComponentLink3Description: https://datasheet.ciiva.com/5838/328837-5838011.pdf?src-supplier=Farnell; ComponentLink4URL: https://datasheet.ciiva.com/9116/aoa0000ce26-9116649.pdf?src-supplier=Avnet; ComponentLink4Description: https://datasheet.ciiva.com/9116/aoa0000ce26-9116649.pdf?src-supplier=Avnet; ComponentLink5URL: https://datasheet.ciiva.com/30213/54aoa0000ce26-30213096.pdf?src-supplier=Onlinecomponents.com; ComponentLink5Description: https://datasheet.ciiva.com/30213/54aoa0000ce26-30213096.pdf?src-supplier=Onlinecomponents.com; Supplier Part Number 1: 667-ERA-2AEB103X
footprint RES 0402_1005 (Chip Resistor, 2-Leads, Body 1.0x0.5mm, IPC Medium Density)
pins: 1, 2

## ERJ-1GNF4700C
designator R?, comment 470  (value not drawn)
RES SMD 470 OHM 1% 1/20W 0201; Manufacturer: Panasonic; Manufacturer Part Number: ERJ-1GNF4700C; Power: 50mW; Rated Temperature: 70°C; Temperature Coefficient: 200ppm/°C; Working Voltage: 25V; Package Height: 0.23mm; Package Length: 0.6mm; Package Width: 0.3mm; Reference Standard: AEC-Q200; Supplier: Mouser; Supplier Part Number: 667-ERJ-1GNF4700C; RoHS: Yes; Category: Chip SMD Resistors; Stock: 294822; Pricing: 1=0.1, 10=0.03, 50=0.03, 100=0.014, 1000=0.01, 10000=0.007 (USD); Mounting Technology: Surface Mount; Pins: 2; Package Shape: Rectangular; Case/Package: 0201; Terminal Finish: Nickel; Min Operating Temperature: -55°C; Max Operating Temperature: 125°C; Tolerance: 1%; JESD-609 Code: e3; Resistor Type: FIXED RESISTOR; Construction: Rectangular; Package Style: SMTMeter; Packaging: Tape and Reel; Value: 470; Technology: METAL GLAZE/THICK FILM; Termination: Wraparound; Reach SVHC Compliant: Yes; RoHS Compliant: Yes; ComponentLink1URL: https://datasheet.ciiva.com:443/pdfs/VipMasterIC/IC/PANA/PANA-S-A0009889626/PANA-S-A0009889626-1.pdf?src-supplier=IHS+Markit; ComponentLink1Description: https://datasheet.ciiva.com:443/pdfs/VipMasterIC/IC/PANA/PANA-S-A0009889626/PANA-S-A0009889626-1.pdf?src-supplier=IHS+Markit; ComponentLink2URL: https://datasheet.ciiva.com/24027/aoa0000ce2-24027045.pdf?src-supplier=Mouser; ComponentLink2Description: https://datasheet.ciiva.com/24027/aoa0000ce2-24027045.pdf?src-supplier=Mouser; ComponentLink3URL: https://datasheet.ciiva.com/43467/1678782-43467046.pdf?src-supplier=Farnell; ComponentLink3Description: https://datasheet.ciiva.com/43467/1678782-43467046.pdf?src-supplier=Farnell; ComponentLink4URL: https://datasheet.ciiva.com/46375/1678782-46375269.pdf?src-supplier=Element14; ComponentLink4Description: https://datasheet.ciiva.com/46375/1678782-46375269.pdf?src-supplier=Element14; ComponentLink5URL: https://datasheet.ciiva.com/7830/1678782-7830713.pdf?src-supplier=Element14; ComponentLink5Description: https://datasheet.ciiva.com/7830/1678782-7830713.pdf?src-supplier=Element14; Supplier 1: Mouser; Supplier Part Number 1: 667-ERJ-1GNF4700C
footprint RES 0201_0603
pins: 1, 2

## ERJ-1GNF4991C
designator R?, comment 4.99 k
RES SMD 4.99 kOHM 1% 1/20W 0201; Manufacturer: Panasonic; Manufacturer Part Number: ERJ-1GNF4991C; Supplier: Mouser; Supplier Part Number: 667-ERJ-1GNF4991C; RoHS: Yes; Category: Chip SMD Resistors; Stock: 73903; Pricing: 1=0.1, 10=0.033, 50=0.033, 100=0.015, 1000=0.011, 10000=0.007 (USD); ComponentLink1URL: https://datasheet.ciiva.com/24210/aoa0000ce2-24210761.pdf?src-supplier=Mouser; ComponentLink1Description: https://datasheet.ciiva.com/24210/aoa0000ce2-24210761.pdf?src-supplier=Mouser; Supplier 1: Mouser; Supplier Part Number 1: 667-ERJ-1GNF4991C; Value: 4.99 k
footprint RES 0201_0603
pins: 1, 2

## ERJ-1GNJ2R0C
designator R?, comment 2
RES SMD 2 OHM 1% 1/20W 0201; Manufacturer: Panasonic; Manufacturer Part Number: ERJ-1GNJ2R0C; Tolerance: 5%; Power: 50mW; Rated Temperature: 70°C; Temperature Coefficient: 600ppm/°C; Working Voltage: 25V; Package Height: 0.23mm; Package Length: 0.6mm; Package Width: 0.3mm; Reference Standard: AEC-Q200; Supplier: Mouser; Supplier Part Number: 667-ERJ-1GNJ2R0C; RoHS: Yes; Category: Chip SMD Resistors; Stock: 8808; Pricing: 1=0.1, 10=0.018, 50=0.018, 100=0.008, 1000=0.006, 10000=0.004 (USD); Mounting Technology: Surface Mount; Pins: 2; Package Shape: Rectangular; Case/Package: 0201; Terminal Finish: Nickel; Min Operating Temperature: -55°C; Max Operating Temperature: 125°C; JESD-609 Code: e3; Resistor Type: FIXED RESISTOR; Construction: Rectangular; Package Style: SMTMeter; Packaging: Tape and Reel; Technology: METAL GLAZE/THICK FILM; Termination: Wraparound; Reach SVHC Compliant: Yes; RoHS Compliant: Yes; ComponentLink1URL: https://datasheet.ciiva.com:443/pdfs/VipMasterIC/IC/PANA/PANA-S-A0009891627/PANA-S-A0009891627-1.pdf?src-supplier=IHS+Markit; ComponentLink1Description: https://datasheet.ciiva.com:443/pdfs/VipMasterIC/IC/PANA/PANA-S-A0009891627/PANA-S-A0009891627-1.pdf?src-supplier=IHS+Markit; ComponentLink2URL: https://datasheet.ciiva.com/24184/aoa0000ce1-37422-24184055.pdf?src-supplier=Mouser; ComponentLink2Description: https://datasheet.ciiva.com/24184/aoa0000ce1-37422-24184055.pdf?src-supplier=Mouser; Supplier 1: Mouser; Supplier Part Number 1: 667-ERJ-1GNJ2R0C; Value: 2
footprint RES 0201_0603
pins: 1, 2

## ERJ-1GNJ243C
designator R?
RES SMD 24 kOHM 0.5% 1/20W 0201; Manufacturer: Panasonic; Manufacturer Part Number: ERJ-1RHD2402C; Supplier: Mouser; Supplier Part Number: 667-ERJ-1RHD2402C; RoHS: No; Category: Chip SMD Resistors; Stock: 4910; Pricing: 1=0.15, 10=0.128, 50=0.128, 100=0.05, 1000=0.021, 10000=0.017 (USD); Supplier 1: Mouser; Supplier Part Number 1: 667-ERJ-1RHD2402C
footprint RES 0201_0603
pins: 1, 2

## ERJ-1RHD1003C
designator R?, comment 100k
RES SMD 100 kOHM 0.5% 1/20W 0201; Manufacturer: Panasonic; Manufacturer Part Number: ERJ-1RHD1003C; Additional Feature: PRECISION; Power: 50mW; Rated Temperature: 70°C; Temperature Coefficient: 50ppm/°C; Working Voltage: 15V; Package Height: 0.23mm; Package Length: 0.6mm; Package Width: 0.3mm; Supplier 1: Mouser; RoHS: Yes; Category: Chip SMD Resistors; Stock 1: 3926; Pricing 1: 1=0.14, 10=0.049, 50=0.049, 100=0.03, 1000=0.021, 10000=0.016 (USD); Mounting Technology: Surface Mount; Pins: 2; Package Shape: Rectangular; Case/Package: 0201; Terminal Finish: Nickel; Min Operating Temperature: -55°C; Max Operating Temperature: 125°C; Tolerance: 0.5%; JESD-609 Code: e3; Resistor Type: FIXED RESISTOR; Construction: Rectangular; Package Style: SMTMeter; Packaging: Tape and Reel; Value: 100k; Technology: METAL GLAZE/THICK FILM; Termination: Wraparound; Reach SVHC Compliant: Yes; RoHS Compliant: Yes; ComponentLink1URL: https://datasheet.ciiva.com:443/pdfs/VipMasterIC/IC/PANA/PANA-S-A0009889626/PANA-S-A0009889626-1.pdf?src-supplier=IHS+Markit; ComponentLink1Description: https://datasheet.ciiva.com:443/pdfs/VipMasterIC/IC/PANA/PANA-S-A0009889626/PANA-S-A0009889626-1.pdf?src-supplier=IHS+Markit; ComponentLink2URL: http://www.mouser.com/ds/2/315/AOA0000C283-1093288.pdf?src-supplier=Mouser; ComponentLink2Description: http://www.mouser.com/ds/2/315/AOA0000C283-1093288.pdf?src-supplier=Mouser; ComponentLink3URL: https://industrial.panasonic.com/cdbs/www-data/pdf/RDA0000/AOA0000C304.pdf?src-supplier=Digi-Key; ComponentLink3Description: https://industrial.panasonic.com/cdbs/www-data/pdf/RDA0000/AOA0000C304.pdf?src-supplier=Digi-Key; ComponentLink4URL: https://industrial.panasonic.com/cdbs/www-data/pdf/RDM0000/DMM0000COL11.pdf?src-supplier=Digi-Key; ComponentLink4Description: https://industrial.panasonic.com/cdbs/www-data/pdf/RDM0000/DMM0000COL11.pdf?src-supplier=Digi-Key; ComponentLink5URL: http://www.onlinecomponents.com/datasheet/erj-1rhd1003c.aspx?p=44466300&src-supplier=Onlinecomponents.com; ComponentLink5Description: http://www.onlinecomponents.com/datasheet/erj-1rhd1003c.aspx?p=44466300&src-supplier=Onlinecomponents.com; ComponentLink6URL: https://datasheet.octopart.com/ERJ-1RHD1003C-Panasonic-datasheet-48891056.pdf?src-supplier=Future+Electronics; ComponentLink6Description: https://datasheet.octopart.com/ERJ-1RHD1003C-Panasonic-datasheet-48891056.pdf?src-supplier=Future+Electronics; ComponentLink7URL: https://datasheet.octopart.com/ERJ-1RHD1003C-Panasonic-datasheet-13266541.pdf?src-supplier=Electro+Sonic; ComponentLink7Description: https://datasheet.octopart.com/ERJ-1RHD1003C-Panasonic-datasheet-13266541.pdf?src-supplier=Electro+Sonic; ComponentLink8URL: https://datasheet.octopart.com/ERJ-1RHD1003C-Panasonic-datasheet-154766169.pdf?src-supplier=Master+Electronics; ComponentLink8Description: https://datasheet.octopart.com/ERJ-1RHD1003C-Panasonic-datasheet-154766169.pdf?src-supplier=Master+Electronics; Supplier Part Number 1: 667-ERJ-1RHD1003C
footprint RES 0201_0603
pins: 1, 2

## ERJ-S020R00X
designator R?, comment 0
RES SMD 0OHM 1/10W 0402; Manufacturer: Panasonic; Manufacturer Part Number: ERJ-S020R00X; Power: 100mW; Rated Temperature: 70°C; Package Height: 0.35mm; Package Length: 1mm; Package Width: 0.5mm; Reference Standard: IEC; Supplier 1: Mouser; RoHS: Yes; Category: Chip SMD Resistors; Stock 1: 388028; Pricing 1: 1=0.25, 10=0.09, 50=0.09, 100=0.057, 1000=0.041, 10000=0.031 (USD); Mounting Technology: Surface Mount; Pins: 2; Case/Package: 0402; Terminal Finish: Tin; Package Shape: Rectangular; Min Operating Temperature: -55°C; Max Operating Temperature: 155°C; JESD-609 Code: e3; Resistor Type: FIXED RESISTOR; Construction: Rectangular; Package Style: SMTMeter; Packaging: Tape and Reel; Value: 0; Technology: METAL GLAZE/THICK FILM; Termination: Wraparound; Reach SVHC Compliant: Yes; RoHS Compliant: Yes; ComponentLink1URL: https://datasheet.ciiva.com:443/pdfs/VipMasterIC/IC/PANA/PANA-S-A0008969865/PANA-S-A0008969865-1.pdf?src-supplier=IHS+Markit; ComponentLink1Description: https://datasheet.ciiva.com:443/pdfs/VipMasterIC/IC/PANA/PANA-S-A0008969865/PANA-S-A0008969865-1.pdf?src-supplier=IHS+Markit; ComponentLink2URL: https://datasheet.ciiva.com/24051/aoa0000ce5-24051112.pdf?src-supplier=Mouser; ComponentLink2Description: https://datasheet.ciiva.com/24051/aoa0000ce5-24051112.pdf?src-supplier=Mouser; Supplier Part Number 1: 667-ERJ-S020R00X
footprint RES 0402_1005
pins: 1, 2